# Altium schematic symbol library DIODE,Zener,22V,300mW,SMD.Schlib: 1 symbol
Pins are listed as number, name and electrical type; pins without a type are passive.

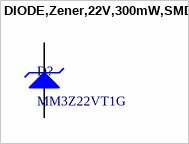
[diagram p0: symbol DIODE,Zener,22V,300mW,SMD]

## DIODE,Zener,22V,300mW,SMD
designator D?, comment MM3Z22VT1G
DIODE ZENER 22V 300MW SOD323
pins: 1 K, 2 A